# EAGLE library part XCV100ES_TQ144 (library xilinx-xcv)
xcv100es_tq144 edit this description Auto generated by make-symbol-device-package-bsdl.ulp Rev. 26 Source: xcv100es_tq144.bsd
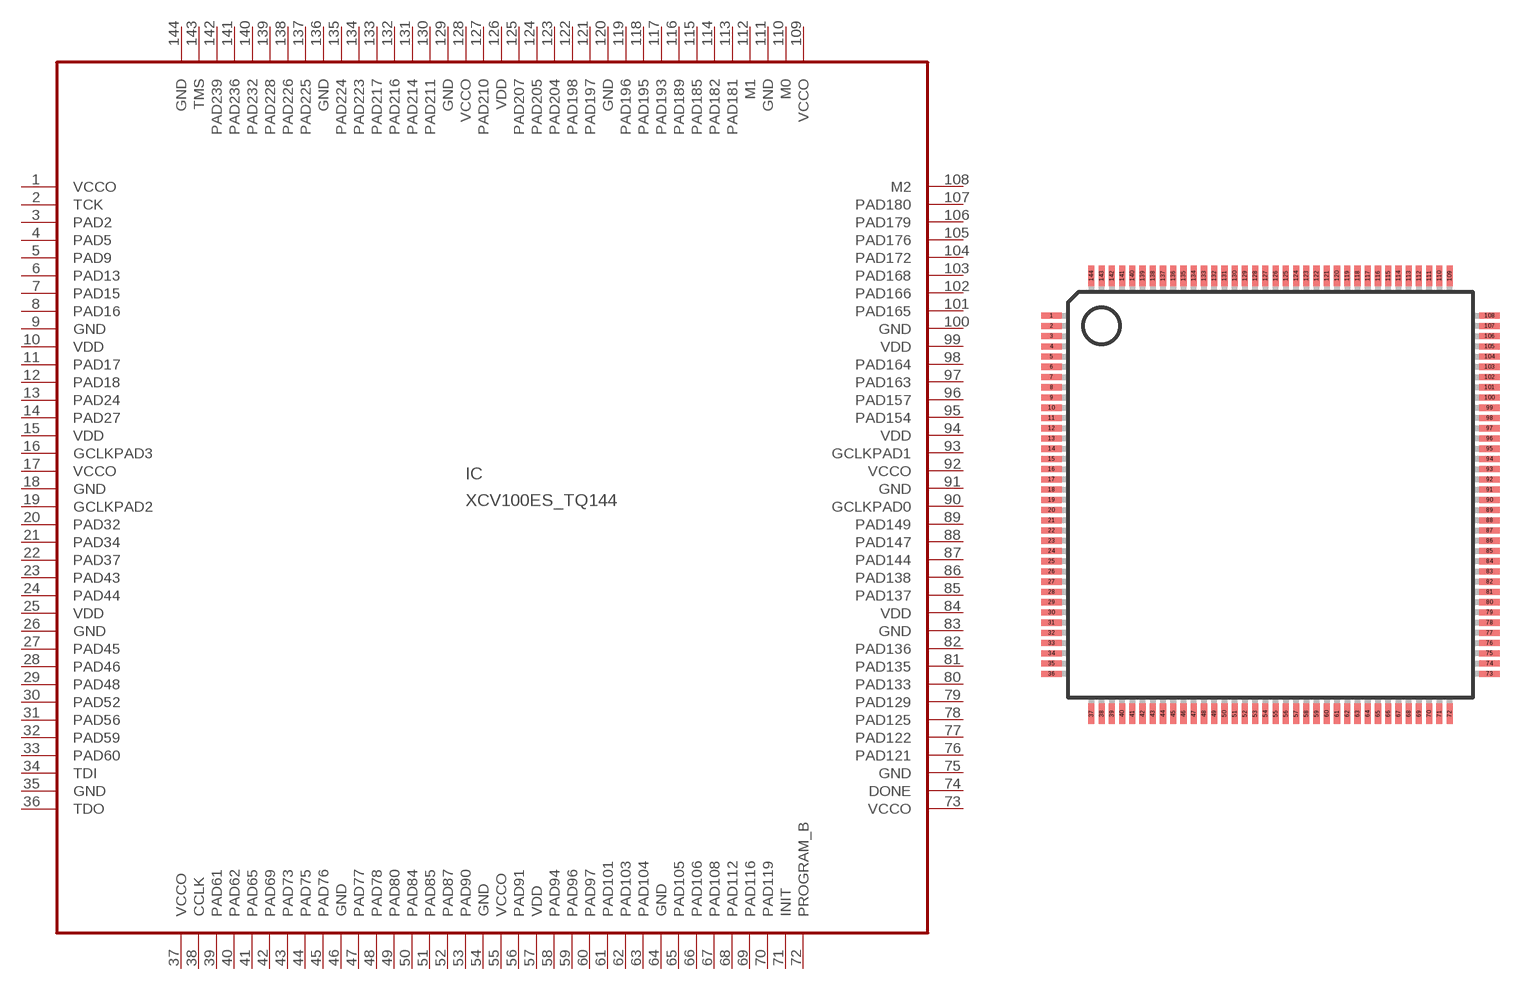
[diagram p28: symbol with the pads of TQ144; footprint TQ144]

Designator prefix IC

## XCV100ES_TQ144  [TQ144]
1  VCCO  pwr
2  TCK  in
3  PAD2
4  PAD5
5  PAD9
6  PAD13
7  PAD15
8  PAD16
9  GND  pwr
10  VDD  pwr
11  PAD17
12  PAD18
13  PAD24
14  PAD27
15  VDD  pwr
16  GCLKPAD3  in
17  VCCO  pwr
18  GND  pwr
19  GCLKPAD2  in
20  PAD32
21  PAD34
22  PAD37
23  PAD43
24  PAD44
25  VDD  pwr
26  GND  pwr
27  PAD45
28  PAD46
29  PAD48
30  PAD52
31  PAD56
32  PAD59
33  PAD60
34  TDI  in
35  GND  pwr
36  TDO  out
37  VCCO  pwr
38  CCLK
39  PAD61
40  PAD62
41  PAD65
42  PAD69
43  PAD73
44  PAD75
45  PAD76
46  GND  pwr
47  PAD77
48  PAD78
49  PAD80
50  PAD84
51  PAD85
52  PAD87
53  PAD90
54  GND  pwr
55  VCCO  pwr
56  PAD91
57  VDD  pwr
58  PAD94
59  PAD96
60  PAD97
61  PAD101
62  PAD103
63  PAD104
64  GND  pwr
65  PAD105
66  PAD106
67  PAD108
68  PAD112
69  PAD116
70  PAD119
71  INIT
72  PROGRAM_B  in
73  VCCO  pwr
74  DONE
75  GND  pwr
76  PAD121
77  PAD122
78  PAD125
79  PAD129
80  PAD133
81  PAD135
82  PAD136
83  GND  pwr
84  VDD  pwr
85  PAD137
86  PAD138
87  PAD144
88  PAD147
89  PAD149
90  GCLKPAD0  in
91  GND  pwr
92  VCCO  pwr
93  GCLKPAD1  in
94  VDD  pwr
95  PAD154
96  PAD157
97  PAD163
98  PAD164
99  VDD  pwr
100  GND  pwr
101  PAD165
102  PAD166
103  PAD168
104  PAD172
105  PAD176
106  PAD179
107  PAD180
108  M2  in
109  VCCO  pwr
110  M0  in
111  GND  pwr
112  M1  in
113  PAD181
114  PAD182
115  PAD185
116  PAD189
117  PAD193
118  PAD195
119  PAD196
120  GND  pwr
121  PAD197
122  PAD198
123  PAD204
124  PAD205
125  PAD207
126  VDD  pwr
127  PAD210
128  VCCO  pwr
129  GND  pwr
130  PAD211
131  PAD214
132  PAD216
133  PAD217
134  PAD223
135  PAD224
136  GND  pwr
137  PAD225
138  PAD226
139  PAD228
140  PAD232
141  PAD236
142  PAD239
143  TMS  in
144  GND  pwr

## Footprint TQ144 (pad centres in mm)
TQ144 Auto generated by make-symbol-device-package-bsdl.ulp Rev. 26 Source: xcv100_tq144_1532.bsd; tq144.pdf
smd 1 x 0.3: 1 -10.7,8.75; 2 -10.7,8.25; 3 -10.7,7.75; 4 -10.7,7.25; 5 -10.7,6.75; 6 -10.7,6.25; 7 -10.7,5.75; 8 -10.7,5.25; 9 -10.7,4.75; 10 -10.7,4.25; 11 -10.7,3.75; 12 -10.7,3.25; 13 -10.7,2.75; 14 -10.7,2.25; 15 -10.7,1.75; 16 -10.7,1.25; 17 -10.7,0.75; 18 -10.7,0.25; 19 -10.7,-0.25; 20 -10.7,-0.75; 21 -10.7,-1.25; 22 -10.7,-1.75; 23 -10.7,-2.25; 24 -10.7,-2.75; 25 -10.7,-3.25; 26 -10.7,-3.75; 27 -10.7,-4.25; 28 -10.7,-4.75; 29 -10.7,-5.25; 30 -10.7,-5.75; 31 -10.7,-6.25; 32 -10.7,-6.75; 33 -10.7,-7.25; 34 -10.7,-7.75; 35 -10.7,-8.25; 36 -10.7,-8.75; 73 10.7,-8.75; 74 10.7,-8.25; 75 10.7,-7.75; 76 10.7,-7.25; 77 10.7,-6.75; 78 10.7,-6.25; 79 10.7,-5.75; 80 10.7,-5.25; 81 10.7,-4.75; 82 10.7,-4.25; 83 10.7,-3.75; 84 10.7,-3.25; 85 10.7,-2.75; 86 10.7,-2.25; 87 10.7,-1.75; 88 10.7,-1.25; 89 10.7,-0.75; 90 10.7,-0.25; 91 10.7,0.25; 92 10.7,0.75; 93 10.7,1.25; 94 10.7,1.75; 95 10.7,2.25; 96 10.7,2.75; 97 10.7,3.25; 98 10.7,3.75; 99 10.7,4.25; 100 10.7,4.75; 101 10.7,5.25; 102 10.7,5.75; 103 10.7,6.25; 104 10.7,6.75; 105 10.7,7.25; 106 10.7,7.75; 107 10.7,8.25; 108 10.7,8.75
smd 0.3 x 1: 37 -8.75,-10.7; 38 -8.25,-10.7; 39 -7.75,-10.7; 40 -7.25,-10.7; 41 -6.75,-10.7; 42 -6.25,-10.7; 43 -5.75,-10.7; 44 -5.25,-10.7; 45 -4.75,-10.7; 46 -4.25,-10.7; 47 -3.75,-10.7; 48 -3.25,-10.7; 49 -2.75,-10.7; 50 -2.25,-10.7; 51 -1.75,-10.7; 52 -1.25,-10.7; 53 -0.75,-10.7; 54 -0.25,-10.7; 55 0.25,-10.7; 56 0.75,-10.7; 57 1.25,-10.7; 58 1.75,-10.7; 59 2.25,-10.7; 60 2.75,-10.7; 61 3.25,-10.7; 62 3.75,-10.7; 63 4.25,-10.7; 64 4.75,-10.7; 65 5.25,-10.7; 66 5.75,-10.7; 67 6.25,-10.7; 68 6.75,-10.7; 69 7.25,-10.7; 70 7.75,-10.7; 71 8.25,-10.7; 72 8.75,-10.7; 109 8.75,10.7; 110 8.25,10.7; 111 7.75,10.7; 112 7.25,10.7; 113 6.75,10.7; 114 6.25,10.7; 115 5.75,10.7; 116 5.25,10.7; 117 4.75,10.7; 118 4.25,10.7; 119 3.75,10.7; 120 3.25,10.7; 121 2.75,10.7; 122 2.25,10.7; 123 1.75,10.7; 124 1.25,10.7; 125 0.75,10.7; 126 0.25,10.7; 127 -0.25,10.7; 128 -0.75,10.7; 129 -1.25,10.7; 130 -1.75,10.7; 131 -2.25,10.7; 132 -2.75,10.7; 133 -3.25,10.7; 134 -3.75,10.7; 135 -4.25,10.7; 136 -4.75,10.7; 137 -5.25,10.7; 138 -5.75,10.7; 139 -6.25,10.7; 140 -6.75,10.7; 141 -7.25,10.7; 142 -7.75,10.7; 143 -8.25,10.7; 144 -8.75,10.7